# Altium schematic symbol library MAX6070AAUT18+T.SchLib: 1 symbol
Pins are listed as number, name and electrical type; pins without a type are passive.

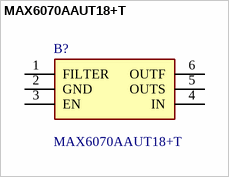
[diagram p0: symbol MAX6070AAUT18+T]

## MAX6070AAUT18+T
designator B?
V-Ref Precision 1.8V 10mA 6-Pin SOT-23 T/R; Manufacturer_Name: Analog Devices; Geometry.Height: 1.45mm; Manufacturer_Part_Number: MAX6070AAUT18+T; Mouser Part Number: 700-MAX6070AAUT18T; Mouser Price/Stock: https://www.mouser.co.uk/ProductDetail/Maxim-Integrated/MAX6070AAUT18%2bT?qs=fEkotVtiOiQPKIf6MZqOIA%3D%3D; Arrow Part Number: MAX6070AAUT18+T; Arrow Price/Stock: https://www.arrow.com/en/products/max6070aaut18t/maxim-integrated?region=nac; Datasheet Link: https://datasheets.maximintegrated.com/en/ds/MAX6070-MAX6071.pdf
footprint SOT95P280X145-6N
pins: 1 FILTER, 2 GND, 3 EN, 4 IN, 5 OUTS, 6 OUTF